# Altium schematic symbol library 0805_LED_Green.SchLib: 1 symbol
Pins are listed as number, name and electrical type; pins without a type are passive.

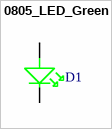
[diagram p0: symbol 0805_LED_Green]

## 0805_LED_Green
designator D1, comment Green LED  (value not drawn)
Part Number: LED_Green_20mcd@12V,1.4K; Manufacturer Part Number: 150060VS55040; Max Reverse Voltage: 5V; Diode Case Style: SMD; Forward Current: 20mA; ComponentLinkDescription: Datasheet; FR_SN: D_LED-02; Value: Green LED; Diode Type: LED; ComponentLinkURL: https://hr.mouser.com/datasheet/2/445/150060VS55040-1313752.pdf; Supplier Part Number: 710-150060VS55040
footprint RESC200X125X60L35N (Resistor, Chip; 2.00 mm L X 1.25 mm W X 0.60 mm H body)
pins: A, C